# Altium footprint library 智能柜控制模块.PcbLib: 27 footprints (part 2 of 2)
Each footprint in its own frame and in the unit in brackets; x right, y up, seen from the top. Pads: shape width x height; smd on the part's side, far side on the other; paste and mask are expansions set on the pad; w line width, h text height; cw(c..) or ccw(c..) is an arc to the next point about the centre after c.
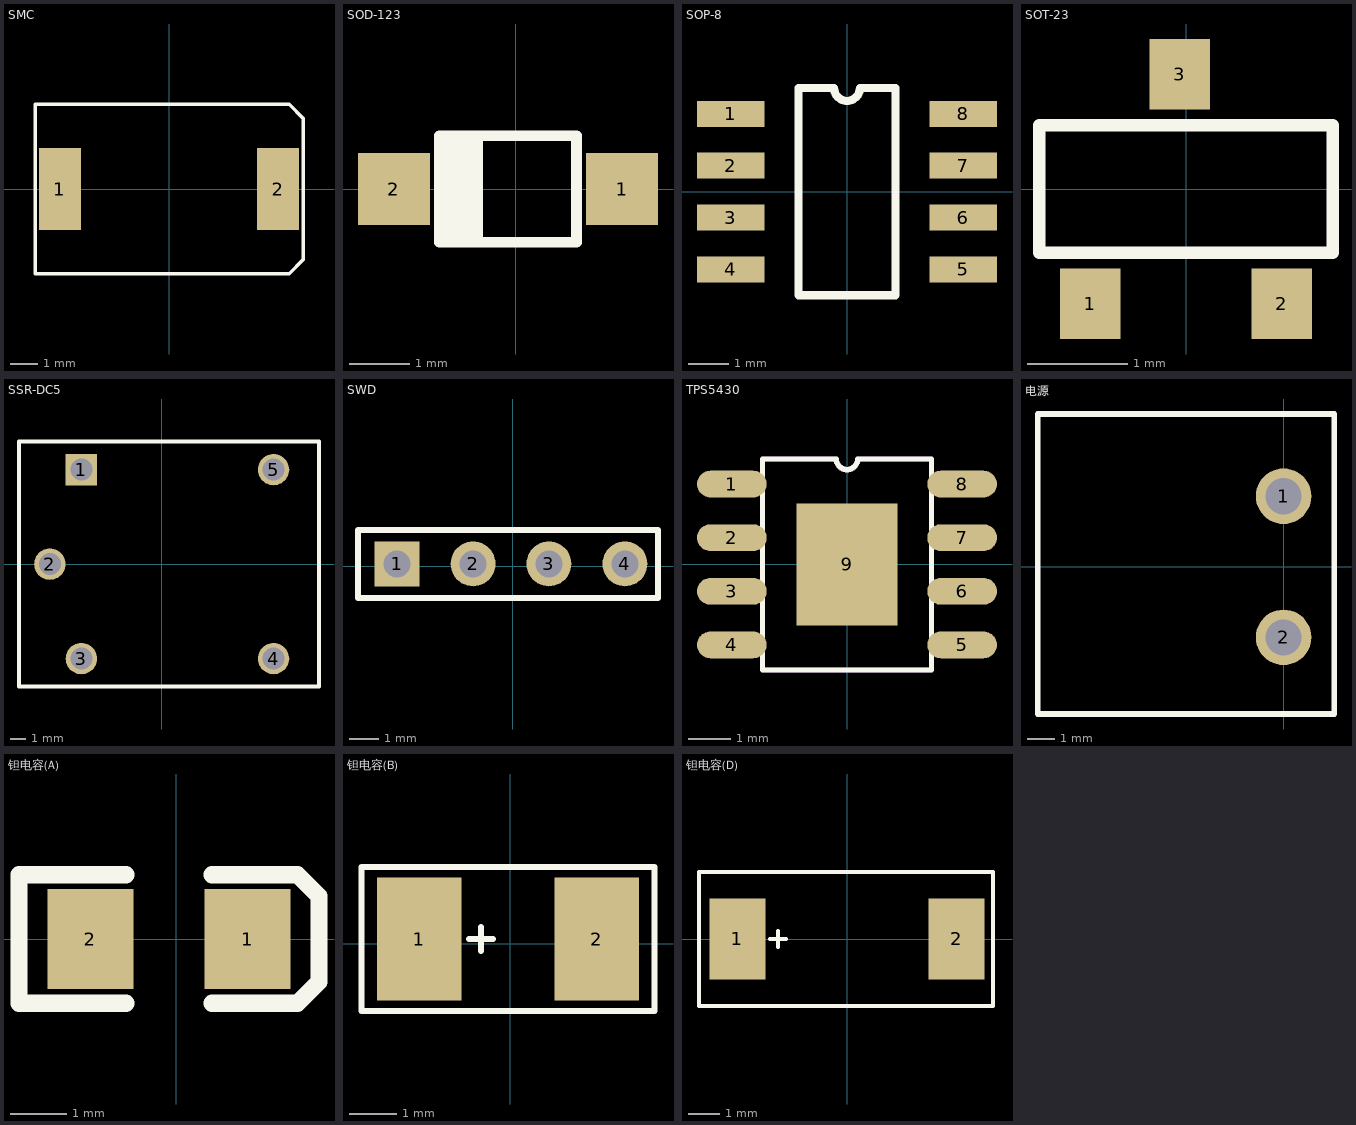
[diagram p1: the footprints below, top view; thin cyan lines are the x and y axes]

## SMC [mm]
pads (2):
  rect 1.5x2.95 smd: 1(-3.924,0) 2(3.924,0)
Top Overlay:
  lines w0.127: -4.813,-3.048 4.331,-3.048 4.839,-2.54 4.839,2.54 4.331,3.048 -4.813,3.048 -4.813,-3.048

## SOD-123 [mm]
pads (2):
  rect 1.2x1.2 smd: 1(1.778,0) 2(-2.032,0)
Top Overlay:
  rectangle: -1.27,-0.889 -0.635,0.889
  lines w0.178: -0.635,-0.889 -0.635,0.889 ; -1.27,-0.889 1.016,-0.889 1.016,-0.445 1.016,0.445 1.016,0.889 -1.27,0.889 -1.27,-0.889

## SOP-8 [mm]
pads (8):
  rect 1.651x0.635 smd: 1(-2.85,1.905) 2(-2.85,0.635) 3(-2.85,-0.635) 4(-2.85,-1.905) 5(2.85,-1.905) 6(2.85,-0.635) 7(2.85,0.635) 8(2.85,1.905)
Top Overlay:
  lines w0.2: -1.189,-2.54 1.19,-2.54 1.19,2.54 0.318,2.54 cw(c0,2.54) -0.317,2.54 -1.189,2.54 -1.189,-2.54

## SOT-23 [mm]
pads (3):
  rect 0.6x0.7 smd: 1(-0.953,-1.143) 2(0.953,-1.143) 3(-0.064,1.143)
Top Overlay:
  lines w0.127: 1.439,-0.635 -1.46,-0.635 -1.46,0.635 1.439,0.635 ; 1.46,-0.635 1.46,0.635

## SSR-DC5 [mm]
pads (5):
  rect 2x2 hole 1.4: 1(-5.1,6)
  round 2 hole 1.4: 2(-7.1,0) 3(-5.1,-6) 4(7.1,-6) 5(7.1,6)
Top Overlay:
  lines w0.254: -9.062,-7.767 9.988,-7.767 9.988,7.778 -9.062,7.778 -9.062,-7.767
3D body: height 15, standoff 0, extent -9.062,-7.767 9.988,7.778

## SWD [mm]
pads (4):
  rect 1.5x1.5 hole 0.9: 1(-3.861,0.076)
  round 1.5 hole 0.9: 2(-1.321,0.076) 3(1.219,0.076) 4(3.759,0.076)
Top Overlay:
  lines w0.2: -5.168,-1.072 -5.168,1.214 4.865,1.214 4.865,-1.072 -5.168,-1.072

## TPS5430 [mil]
pads (9):
  oval 65x25 smd: 1(-107.36,75) 2(-107.36,25) 3(-107.36,-25) 4(-107.36,-75) 5(107.36,-75) 6(107.36,-25) 7(107.36,25) 8(107.36,75)
  rect 94.49x114.17 smd: 9(0,0)
Top Overlay:
  lines w5: -78.74,-98.43 78.74,-98.43 78.74,98.43 10,98.43 cw(c0,98.43) -10,98.43 -78.74,98.43 -78.74,-98.43
Mechanical 1:
  lines w5: -78.74,-98.43 78.74,-98.43 78.74,98.43 10,98.43 cw(c0,98.43) -10,98.43 -78.74,98.43 -78.74,-98.43

## 电源 [mm]
pads (2):
  round 2 hole 1.3: 1(0,2.54) 2(0,-2.54)
Top Overlay:
  lines w0.2: -8.85,-5.3 1.825,-5.3 1.825,5.5 -8.85,5.5 -8.85,-5.3

## 钽电容(A) [mil]
pads (2):
  rect 60x70 smd: 1(50,0) 2(-60,0)
Top Overlay:
  lines w12: -35,-45 -110,-45 -110,45 -35,45 ; 25,-45 85,-45 100,-30 100,30 85,45 25,45

## 钽电容(B) [mm]
pads (2):
  rect 1.8x2.6 smd: 1(-1.933,0.102) 2(1.832,0.102)
Top Overlay:
  lines w0.127: -0.876,0.102 -0.368,0.102 ; -0.622,-0.152 -0.622,0.356 ; -3.162,-1.422 -3.162,1.626 3.061,1.626 3.061,-1.422 -3.162,-1.422

## 钽电容(D) [mm]
pads (2):
  rect 1.8x2.6 smd: 1(-3.533,0) 2(3.533,0)
Top Overlay:
  lines w0.127: -2.476,0 -1.968,0 ; -2.222,-0.254 -2.222,0.254 ; -4.762,-2.159 4.699,-2.159 4.699,2.159 -4.763,2.159 -4.762,-2.159